# Altium footprint library YaoPCB.PCBLIB: 415 footprints (part 11 of 26)
Each footprint in its own frame and in the unit in brackets; x right, y up, seen from the top. Pads: shape width x height; smd on the part's side, far side on the other; paste and mask are expansions set on the pad; w line width, h text height; cw(c..) or ccw(c..) is an arc to the next point about the centre after c.
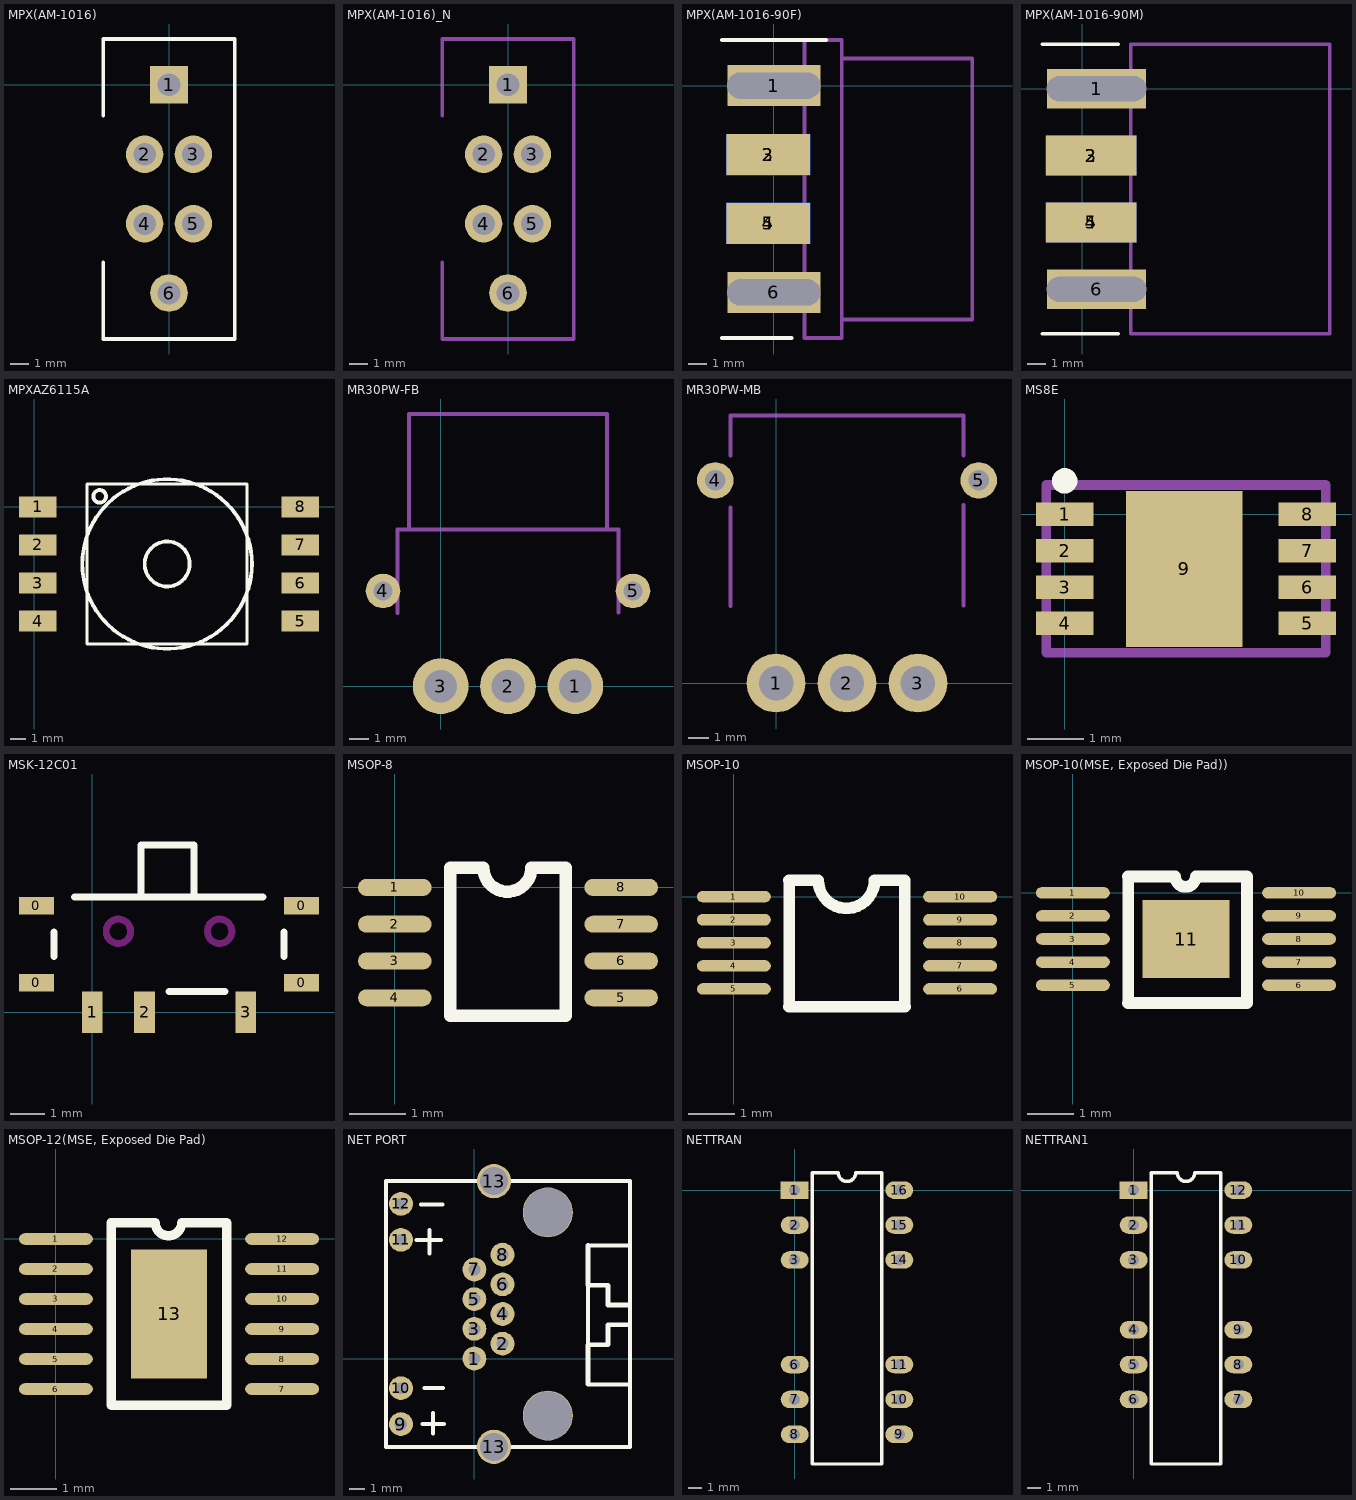
[diagram p10: the footprints below, top view; thin cyan lines are the x and y axes]

## MPX(AM-1016) [mm]
pads (6):
  rect 2x2 hole 1.2: 1(0,0)
  round 2 hole 1.2: 2(-1.3,-3.7) 3(1.3,-3.7) 4(-1.3,-7.4) 5(1.3,-7.4) 6(0,-11.1)
TopOverlay:
  lines w0.2: -3.5,-9.46 -3.5,-13.55 3.5,-13.55 3.5,2.45 -3.5,2.45 -3.5,-1.64

## MPX(AM-1016)_N [mm]
pads (6):
  rect 2x2 hole 1.2: 1(0,0)
  round 2 hole 1.2: 2(-1.3,-3.7) 3(1.3,-3.7) 4(-1.3,-7.4) 5(1.3,-7.4) 6(0,-11.1)
Mechanical15:
  lines w0.2: -3.5,-9.46 -3.5,-13.55 3.5,-13.55 3.5,2.45 -3.5,2.45 -3.5,-1.64

## MPX(AM-1016-90F) [mm]
pads (6):
  rect 5x2.2 hole 1.4 slot 5 at 0 deg: 1(0,0)
  rect 4.5x2.2 smd: 2(-0.3,-3.7) 4(-0.3,-7.4)
  rect 4.5x2.2 smd far side: 3(-0.3,-3.7) 5(-0.3,-7.4)
  rect 5x2.2 hole 1.4 slot 5 at 0 deg mask+0.102: 6(0,-11.1)
TopOverlay:
  lines w0.2: -2.8,-13.55 0.95,-13.55 ; -2.8,2.45 2.8,2.45
Mechanical15:
  lines w0.2: 3.65,-12.55 10.65,-12.55 10.65,1.45 3.65,1.45 ; 1.65,-13.55 3.65,-13.55 3.65,2.45 1.65,2.45 1.65,-13.55

## MPX(AM-1016-90M) [mm]
pads (6):
  rect 5.5x2.2 hole 1.4 slot 5.5 at 0 deg: 1(0.8,0)
  rect 5x2.2 smd: 2(0.5,-3.7) 4(0.5,-7.4)
  rect 5x2.2 smd far side: 3(0.5,-3.7) 5(0.5,-7.4)
  rect 5.5x2.2 hole 1.4 slot 5.5 at 0 deg mask+0.102: 6(0.8,-11.1)
TopOverlay:
  lines w0.2: -2.2,-13.55 2,-13.55 ; -2.2,2.45 2,2.45
Mechanical15:
  lines w0.2: 2.7,-13.55 13.7,-13.55 13.7,2.45 2.7,2.45 2.7,-13.55

## MPXAZ6115A [mm]
pads (8):
  rect 2.5x1.4 smd: 1(0.25,0) 2(0.25,-2.54) 3(0.25,-5.08) 4(0.25,-7.62) 5(17.75,-7.62) 6(17.75,-5.08) 7(17.75,-2.54) 8(17.75,0)
TopOverlay:
  circle w0.254: c4.381,0.7 r0.419
  circle w0.254: c8.875,-3.81 r1.5
  circle w0.254: c8.875,-3.81 r5.655
  lines w0.203: 3.545,-9.14 3.545,1.52 14.205,1.52 14.205,-9.14 3.545,-9.14

## MR30PW-FB [mm]
pads (5):
  round 2.9 hole 1.7: 1(7,0) 2(3.5,0) 3(0,0)
  round 1.8 hole 1: 4(-3,4.95) 5(10,4.95)
Mechanical15:
  lines w0.2: -2.25,3.8 -2.25,8.15 9.25,8.15 9.25,3.82 ; -1.65,8.18 -1.65,14.15 8.65,14.15 8.65,8.15

## MR30PW-MB [mm]
pads (5):
  round 2.9 hole 1.7: 1(0,0) 2(3.5,0) 3(7,0)
  round 1.8 hole 1: 4(-3,10) 5(10,10)
Mechanical15:
  lines w0.2: -2.25,3.8 -2.25,8.67 ; -2.25,11.23 -2.25,13.2 9.25,13.2 9.25,11.24 ; 9.25,3.82 9.25,8.78

## MS8E [mm]
pads (9):
  rect 1.026x0.42 smd: 1(0,0) 2(0,-0.65) 3(0,-1.3) 4(0,-1.95) 5(4.341,-1.95) 6(4.341,-1.3) 7(4.341,-0.65) 8(4.341,0)
  rect 2.083x2.794 smd: 9(2.141,-0.975)
TopOverlay:
  circle w0.254: c0,0.6 r0.1
Mechanical15:
  lines w0.177: -0.329,-2.475 -0.329,0.525 4.671,0.525 4.671,-2.475 -0.329,-2.475

## MSK-12C01 [mm]
pads (7):
  rect 1x0.5 smd: 0(-1.6,0.85) 0(-1.6,3.05) 0(6,0.85) 0(6,3.05)
  rect 0.6x1.2 smd: 1(0,0) 2(1.5,0) 3(4.4,0)
TopOverlay:
  lines w0.2: -1.1,1.6 -1.1,2.3 ; 1.397,3.308 1.397,4.799 2.921,4.799 2.921,3.3 ; 2.2,0.6 3.8,0.6 ; 4.9,3.3 -0.5,3.3 ; 5.5,1.6 5.5,2.3 ; -0.5,3.3 -0.508,3.308 -0.5,3.3
KeepOutLayer:
  circle w0.2: c3.65,2.32 r0.35
  circle w0.2: c0.75,2.32 r0.35

## MSOP-8 [mm]
pads (8):
  oval 1.3x0.3 smd: 1(0,0) 2(0,-0.65) 3(0,-1.3) 4(0,-1.95) 5(4,-1.95) 6(4,-1.3) 7(4,-0.65) 8(4,0)
TopOverlay:
  lines w0.22: 0.98,-2.265 3.02,-2.265 3.02,0.351 2.414,0.351 cw(c1.988,0.351) 1.563,0.351 0.98,0.351 0.98,-2.265

## MSOP-10 [mm]
pads (10):
  oval 1.6x0.25 smd: 1(0,0) 2(0,-0.5) 3(0,-1) 4(0,-1.5) 5(0,-2) 6(4.9,-2) 7(4.9,-1.5) 8(4.9,-1) 9(4.9,-0.5) 10(4.9,0)
TopOverlay:
  lines w0.254: 1.194,-2.388 3.708,-2.388 ; 1.194,0.356 1.829,0.356 ccw(c2.438,0.356) 3.048,0.356 3.683,0.356 ; 1.2,-2.388 1.2,0.356 ; 3.7,-2.388 3.7,0.356

## MSOP-10(MSE, Exposed Die Pad)) [mm]
pads (11):
  oval 1.6x0.25 smd: 1(0,0) 2(0,-0.5) 3(0,-1) 4(0,-1.5) 5(0,-2) 6(4.9,-2) 7(4.9,-1.5) 8(4.9,-1) 9(4.9,-0.5) 10(4.9,0)
  rect 1.88x1.68 smd: 11(2.45,-1)
TopOverlay:
  lines w0.254: 1.194,-2.388 3.77,-2.388 3.77,0.356 2.663,0.356 cw(c2.438,0.356) 2.214,0.356 1.194,0.356 ; 1.2,-2.388 1.2,0.356

## MSOP-12(MSE, Exposed Die Pad) [mm]
pads (13):
  oval 1.6x0.25 smd: 1(0,0) 2(0,-0.65) 3(0,-1.3) 4(0,-1.95) 5(0,-2.6) 6(0,-3.25) 7(4.9,-3.25) 8(4.9,-2.6) 9(4.9,-1.95) 10(4.9,-1.3) 11(4.9,-0.65) 12(4.9,0)
  rect 1.65x2.8 smd: 13(2.45,-1.625)
TopOverlay:
  lines w0.203: 1.194,0.356 2.152,0.356 ccw(c2.438,0.356) 2.725,0.356 3.683,0.356 ; 1.2,0.356 1.2,-3.6 3.7,-3.6 3.7,0.356

## NET PORT [mm]
pads (16):
  round 1.524 hole 0.762: 1(0,0) 2(1.8,0.95) 3(0,1.9) 4(1.8,2.85) 5(0,3.8) 6(1.8,4.75) 7(0,5.7) 8(1.8,6.65) 10(-4.7,-1.9) 11(-4.7,7.6) 12(-4.7,9.9)
  round 1.524 hole 0.8: 9(-4.7,-4.2)
  round 2.2 hole 1.8: 13(1.25,-5.65) 13(1.25,11.35)
  round 3.2 hole 3.1: ""(4.7,-3.65) ""(4.7,9.35)
TopOverlay:
  lines w0.254: -3.7,7.575 -2.15,7.575 ; -3.425,9.85 -2.05,9.85 ; -3.325,-4.2 -1.95,-4.2 ; -3.2,-1.875 -2,-1.875 ; -2.875,6.725 -2.875,8.225 ; -2.65,-4.8 -2.65,-3.5 ; 7.275,-1.652 9.877,-1.652 ; 7.275,0.6 7.275,4.698 ; 7.275,7.238 9.912,7.238 ; -5.65,-5.65 -5.65,11.35 9.95,11.35 9.95,-5.65 -5.65,-5.65
  lines w0.305: 7.275,-1.652 7.275,-0.382 7.275,0.888 8.545,0.888 8.545,2.158 9.815,2.158 ; 7.275,7.238 7.275,4.698 8.545,4.698 8.545,3.428 9.815,3.428

## NETTRAN [mil]
pads (12):
  rect 80x50 hole 31.5: 1(0,0)
  oval 80x50 hole 31.5: 2(0,-100) 3(0,-200) 6(0,-500) 7(0,-600) 8(0,-700) 9(300,-700) 10(300,-600) 11(300,-500) 14(300,-200) 15(300,-100) 16(300,0)
TopOverlay:
  lines w10: 50,-785 50,-650 50,50 125,50 ccw(c150,50) 175,50 250,50 250,-650 250,-785 50,-785

## NETTRAN1 [mil]
pads (12):
  rect 80x50 hole 31.5: 1(0,0)
  oval 80x50 hole 31.5: 2(0,-100) 3(0,-200) 4(0,-400) 5(0,-499.99) 6(0,-599.99) 7(300,-599.99) 8(300,-499.99) 9(300,-400) 10(300,-200) 11(300,-100) 12(300,0)
TopOverlay:
  lines w10: 50,-785 250,-785 250,-650 250,50 175,50 cw(c150,50) 125,50 50,50 50,-650 50,-785